# EAGLE library part ESP32-C3-WROOM-02-H4 (library esp32_shield)
WiFi Modules (802.11) (Engineering Samples) SMD module, ESP32-C3, 4MB SPI flash, PCB antenna, -40 C +105 C
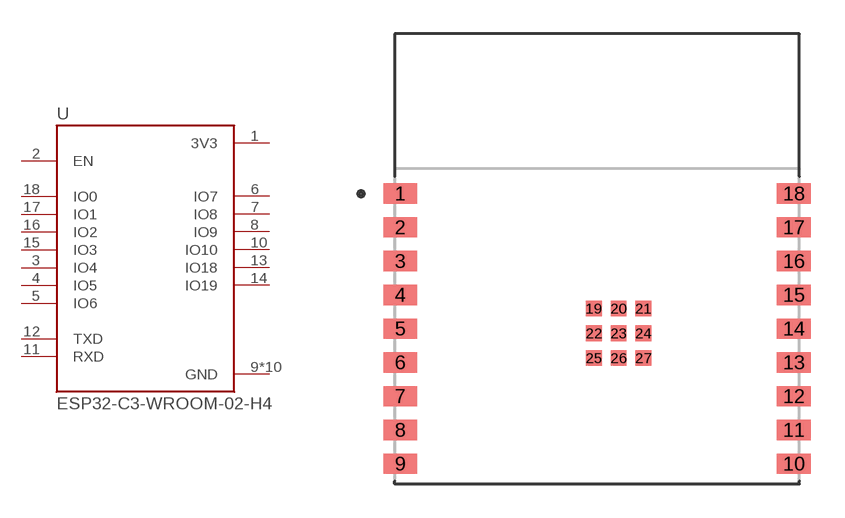
[diagram p1: symbol with the pads of MODULE_ESP32-C3-WROOM-02-H4; footprint MODULE_ESP32-C3-WROOM-02-H4]

Designator prefix U

## ESP32-C3-WROOM-02-H4 (MANUFACTURER: Espressif; MAXIMUM_PACKAGE_HEIGHT: 3.35 mm; PARTREV: V1.0; STANDARD: Manufacturer Recommendations)  [MODULE_ESP32-C3-WROOM-02-H4]
1  3V3  pwr
2  EN  in
3  IO4
4  IO5
5  IO6
6  IO7
7  IO8
8  IO9
9  GND  pwr
10  IO10
11  RXD
12  TXD
13  IO18
14  IO19
15  IO3
16  IO2
17  IO1
18  IO0
19  GND  pwr
20  GND  pwr
21  GND  pwr
22  GND  pwr
23  GND  pwr
24  GND  pwr
25  GND  pwr
26  GND  pwr
27  GND  pwr

## Footprint MODULE_ESP32-C3-WROOM-02-H4 (pad centres in mm)
smd 1.5 x 0.9: 1 -8.75,2.9; 2 -8.75,1.4; 3 -8.75,-0.1; 4 -8.75,-1.6; 5 -8.75,-3.1; 6 -8.75,-4.6; 7 -8.75,-6.1; 8 -8.75,-7.6; 9 -8.75,-9.1; 10 8.75,-9.1; 11 8.75,-7.6; 12 8.75,-6.1; 13 8.75,-4.6; 14 8.75,-3.1; 15 8.75,-1.6; 16 8.75,-0.1; 17 8.75,1.4; 18 8.75,2.9
smd 0.7 x 0.7: 19 -0.14,-2.2; 20 0.96,-2.2; 21 2.06,-2.2; 22 -0.14,-3.3; 23 0.96,-3.3; 24 2.06,-3.3; 25 -0.14,-4.4; 26 0.96,-4.4; 27 2.06,-4.4